# Altium footprint library zyx.PcbLib: 17 footprints (part 3 of 4)
Each footprint in its own frame and in the unit in brackets; x right, y up, seen from the top. Pads: shape width x height; smd on the part's side, far side on the other; paste and mask are expansions set on the pad; w line width, h text height; cw(c..) or ccw(c..) is an arc to the next point about the centre after c.
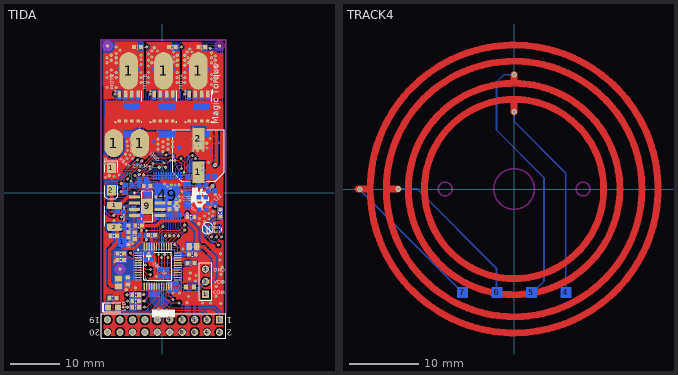
[diagram p2: the footprints below, top view; thin cyan lines are the x and y axes]

## TIDA [mm]
pads (337):
  round 0.635 smd mask+0.683: 1(-11.188,29.992) 1(-8.648,-15.569) 1(11.672,29.992)
  rect 0.254x0.254 smd far side paste-0.127 mask-0.127: 1(-10.553,8.021) 1(-9.029,10.561) 1(-4.457,7.894) 1(-3.822,8.656) 1(-3.314,8.021) 1(-1.79,10.307) 1(1.385,8.021) 1(3.29,9.037) 1(3.798,9.037) 1(5.322,7.005) 1(9.894,8.275) 1(10.91,8.529) 2(-10.553,8.529) 2(-9.029,11.069) 2(-4.457,8.402) 2(-3.822,9.164) 2(-3.314,8.529) 2(-1.79,10.815) 2(1.893,8.021) 2(3.29,9.545) 2(3.798,9.545) 2(5.322,7.513) 2(9.894,8.783) 2(10.91,9.037)
  rect 1.85x2.1 smd: 1(-10.394,5.146) 2(-10.394,0.546)
  oval 3.81x5.715 smd: 1(-9.918,10.148) 1(-4.61,10.148)
  rrect30% 3x1.5 smd: 1(-9.759,-2.559) 2(-9.759,-6.989)
  rect 0.8x0.85 smd: 1(-9.377,-21.443) 1(-9.218,-8.743) 1(-7.789,-13.664) 1(-7.789,-12.394) 1(-4.748,-20.783) 1(-4.748,-23.323) 1(-4.748,-22.054) 1(-4.392,29.738) 1(-4.138,-6.679) 1(-2.392,1.417) 1(-1.471,-8.616) 1(1.447,-3.346) 1(1.447,-2.076) 1(2.72,29.738) 1(5.098,-4.933) 1(5.13,-14.331) 1(5.416,-12.553) 1(8.735,29.738) 2(-10.777,-21.443) 2(-10.618,-8.743) 2(-9.189,-13.664) 2(-9.189,-12.394) 2(-6.148,-20.783) 2(-6.148,-23.323) 2(-6.148,-22.054) 2(-5.792,29.738) 2(-5.538,-6.679) 2(-3.792,1.417) 2(-2.871,-8.616) 2(1.32,29.738) 2(2.847,-3.346) 2(2.847,-2.076) 2(6.498,-4.933) 2(6.53,-14.331) 2(6.816,-12.553) 2(7.335,29.738)
  rect 0.8x0.85 smd far side: 1(-9.348,-3.822) 1(-6.253,1.576) 1(-4.748,-23.323) 1(-4.748,-22.054) 1(-4.748,-20.783) 1(-4.675,2.814) 1(-3.249,-8.616) 1(6.657,3.322) 1(7.416,-0.869) 1(8.816,1.671) 1(8.943,-3.409) 1(9.321,-2.139) 1(9.321,0.401) 1(10.669,3.345) 2(-7.948,-3.822) 2(-6.148,-23.323) 2(-6.148,-22.054) 2(-6.148,-20.783) 2(-4.853,1.576) 2(-4.649,-8.616) 2(-3.275,2.814) 2(5.257,3.322) 2(7.416,1.671) 2(7.543,-3.409) 2(8.816,-0.869) 2(9.269,3.345) 2(10.721,-2.139) 2(10.721,0.401)
  rect 1.2x1.2 smd: 1(-9.027,-23.348) 2(-11.127,-23.348)
  rect 1.4x1.1 smd: 1(-8.966,-17.518) 2(-8.966,-19.018)
  rect 1.8x1.8 smd far side: 1(-8.172,-10.054) 2(-8.172,-6.754)
  rect 0.85x0.8 smd far side: 1(-7.556,0.183) 1(-5.854,-4.49) 1(-4.457,-4.614) 1(-3.409,-12.171) 1(-2.298,-19.156) 1(-2.139,-13.571) 1(-1.028,-20.556) 1(-0.393,-15.663) 1(0.877,-17.063) 1(1.512,-19.921) 1(2.782,-18.521) 2(-7.556,1.583) 2(-5.854,-3.09) 2(-4.457,-6.014) 2(-3.409,-13.571) 2(-2.298,-20.556) 2(-2.139,-12.171) 2(-1.028,-19.156) 2(-0.393,-17.063) 2(0.877,-15.663) 2(1.512,-18.521) 2(2.782,-19.921)
  rect 0.85x0.8 smd: 1(-7.061,-17.251) 1(-6.902,-10.554) 1(-6.902,-6.614) 1(-5.632,-8.043) 1(11.831,-4.839) 2(-7.061,-18.651) 2(-6.902,-9.154) 2(-6.902,-8.014) 2(-5.632,-9.443) 2(11.831,-3.439)
  oval 3.81x7.62 smd: 1(-6.87,24.912) 1(0.242,24.912) 1(7.354,24.912)
  rect 3.3x1.1 smd far side: 1(-6.235,12.029) 1(0.877,12.029) 1(7.989,12.029) 2(-6.235,17.729) 2(0.877,17.729) 2(7.989,17.729)
  rect 2.2x0.6 smd: 1(-5.692,-0.806) 2(-5.692,-2.076) 3(-5.692,-3.346) 4(-5.692,-4.616) 5(-0.492,-4.616) 6(-0.492,-3.346) 7(-0.492,-2.076) 8(-0.492,-0.806)
  rect 0.71x1.372 smd far side paste-0.4: 1(-4.965,19.723) 1(2.147,19.723) 1(9.259,19.723) 2(-6.235,19.723) 2(0.877,19.723) 2(7.989,19.723) 3(-7.505,19.723) 3(-0.393,19.723) 3(6.719,19.723) 4(-8.775,19.723) 4(-1.663,19.723) 4(5.449,19.723)
  rect 0.71x1.372 smd paste-0.4: 1(-4.965,20.195) 1(2.147,20.195) 1(9.259,20.195) 2(-6.235,20.195) 2(0.877,20.195) 2(7.989,20.195) 3(-7.505,20.195) 3(-0.393,20.195) 3(6.719,20.195) 4(-8.775,20.195) 4(-1.663,20.195) 4(5.449,20.195)
  oval 1.55x0.25 smd: 1(-4.952,-12.249) 2(-4.952,-12.749) 3(-4.952,-13.249) 4(-4.952,-13.749) 5(-4.952,-14.249) 6(-4.952,-14.749) 7(-4.952,-15.249) 8(-4.952,-15.749) 9(-4.952,-16.249) 10(-4.952,-16.749) 11(-4.952,-17.249) 12(-4.952,-17.749) 25(3.098,-17.749) 26(3.098,-17.249) 27(3.098,-16.749) 28(3.098,-16.249) 29(3.098,-15.749) 30(3.098,-15.249) 31(3.098,-14.749) 32(3.098,-14.249) 33(3.098,-13.749) 34(3.098,-13.249) 35(3.098,-12.749) 36(3.098,-12.249)
  rrect100% 0.25x1.5 smd far side: 1(3.754,-4.665) 2(3.254,-4.665) 3(2.754,-4.665) 4(2.254,-4.665) 5(1.754,-4.665) 6(1.254,-4.665) 7(0.754,-4.665) 8(0.254,-4.665) 9(-0.246,-4.665) 10(-0.746,-4.665) 11(-1.246,-4.665) 12(-1.746,-4.665) 25(-1.746,3.435) 26(-1.246,3.435) 27(-0.746,3.435) 28(-0.246,3.435) 29(0.254,3.435) 30(0.754,3.435) 31(1.254,3.435) 32(1.754,3.435) 33(2.254,3.435) 34(2.754,3.435) 35(3.254,3.435) 36(3.754,3.435)
  rect 1.1x1.4 smd: 1(5.524,-10.966) 2(7.024,-10.966)
  rect 0.813x1.016 smd: 1(6.497,-19.221) 2(4.782,-19.221)
  rect 2.5x4.4 smd: 1(7.354,4.19) 2(7.354,11.09)
  rect 1.5x1.5 hole 0.9: 1(8.814,-20.649) 1(11.672,-25.888)
  rrect50% 0.2x0.55 smd: 1(9.656,-7.898) 2(10.156,-7.898) 4(11.156,-7.898) 5(11.656,-7.898) 6(11.656,-7.048) 7(11.156,-7.048) 9(10.156,-7.048) 10(9.656,-7.048)
  round 1.5 hole 0.9: 2(8.814,-18.109) 2(11.672,-28.428) 3(8.814,-15.569) 3(9.132,-25.888) 4(9.132,-28.428) 5(6.592,-25.888) 6(6.592,-28.428) 7(4.052,-25.888) 8(4.052,-28.428) 9(1.512,-25.888) 10(1.512,-28.428) 11(-1.028,-25.888) 12(-1.028,-28.428) 13(-3.568,-25.888) 14(-3.568,-28.428) 15(-6.108,-25.888) 16(-6.108,-28.428) 17(-8.648,-25.888) 18(-8.648,-28.428) 19(-11.188,-25.888) 20(-11.188,-28.428)
  rrect25% 0.4x0.55 smd: 3(10.656,-7.898) 8(10.656,-7.048)
  rect 0.71x0.59 smd paste-0.3: 5(-8.775,14.643) 5(-1.663,14.643) 5(5.449,14.643) 6(-7.505,14.643) 6(-0.393,14.643) 6(6.719,14.643) 7(-6.235,14.643) 7(0.877,14.643) 7(7.989,14.643) 8(-4.965,14.643) 8(2.147,14.643) 8(9.259,14.643)
  rect 0.71x0.59 smd far side paste-0.3: 5(-8.775,25.275) 5(-1.663,25.275) 5(5.449,25.275) 6(-7.505,25.275) 6(-0.393,25.275) 6(6.719,25.275) 7(-6.235,25.275) 7(0.877,25.275) 7(7.989,25.275) 8(-4.965,25.275) 8(2.147,25.275) 8(9.259,25.275)
  rect 2.4x3.1 smd mask+0.102: 9(-3.092,-2.711)
  oval 0.25x1.55 smd: 13(-3.677,-19.024) 14(-3.177,-19.024) 15(-2.677,-19.024) 16(-2.177,-19.024) 17(-1.677,-19.024) 18(-1.177,-19.024) 19(-0.677,-19.024) 20(-0.177,-19.024) 21(0.323,-19.024) 22(0.823,-19.024) 23(1.323,-19.024) 24(1.823,-19.024) 37(1.823,-10.974) 38(1.323,-10.974) 39(0.823,-10.974) 40(0.323,-10.974) 41(-0.177,-10.974) 42(-0.677,-10.974) 43(-1.177,-10.974) 44(-1.677,-10.974) 45(-2.177,-10.974) 46(-2.677,-10.974) 47(-3.177,-10.974) 48(-3.677,-10.974)
  rrect100% 1.5x0.25 smd far side: 13(-3.046,-3.365) 14(-3.046,-2.865) 15(-3.046,-2.365) 16(-3.046,-1.865) 17(-3.046,-1.365) 18(-3.046,-0.865) 19(-3.046,-0.365) 20(-3.046,0.135) 21(-3.046,0.635) 22(-3.046,1.135) 23(-3.046,1.635) 24(-3.046,2.135) 37(5.054,2.135) 38(5.054,1.635) 39(5.054,1.135) 40(5.054,0.635) 41(5.054,0.135) 42(5.054,-0.365) 43(5.054,-0.865) 44(5.054,-1.365) 45(5.054,-1.865) 46(5.054,-2.365) 47(5.054,-2.865) 48(5.054,-3.365)
  rrect2% 5.17x5.17 smd far side: 49(1.004,-0.615)
via -4.235,-7.651 diameter 0.635 hole 0.381
via 2.198,-21.773 diameter 0.635 hole 0.381
via 3.417,-22.434 diameter 0.635 hole 0.381
via -6.515,-12.274 diameter 0.635 hole 0.381
via -3.67,-23.297 diameter 0.635 hole 0.381
via -3.695,-22.078 diameter 0.635 hole 0.381
via -3.797,-20.757 diameter 0.635 hole 0.381
via -7.099,-23.323 diameter 0.635 hole 0.381
via -7.124,-22.078 diameter 0.635 hole 0.381
via -7.251,-20.783 diameter 0.635 hole 0.381
via 4.179,-11.41 diameter 0.635 hole 0.381
via -11.315,26.563 diameter 0.635 hole 0.381
via -9.41,26.563 diameter 0.635 hole 0.381
via -11.315,23.515 diameter 0.635 hole 0.381
via -9.42,23.515 diameter 0.635 hole 0.381
via -10.426,28.087 diameter 0.635 hole 0.381
via -10.426,23.896 diameter 0.635 hole 0.381
via -4.33,24.531 diameter 0.635 hole 0.381
via -4.32,22.499 diameter 0.635 hole 0.381
via -4.32,23.515 diameter 0.635 hole 0.381
via -4.33,26.182 diameter 0.635 hole 0.381
via -4.33,27.198 diameter 0.635 hole 0.381
via -9.42,24.531 diameter 0.635 hole 0.381
via -9.42,21.483 diameter 0.635 hole 0.381
via -9.41,27.579 diameter 0.635 hole 0.381
via -11.315,21.483 diameter 0.635 hole 0.381
via -11.315,24.531 diameter 0.635 hole 0.381
via 3.036,22.499 diameter 0.635 hole 0.381
via 5.195,26.563 diameter 0.635 hole 0.381
via 6.084,28.722 diameter 0.635 hole 0.381
via 5.576,29.357 diameter 0.635 hole 0.381
via 2.104,9.418 diameter 0.635 hole 0.381
via 2.104,10.434 diameter 0.635 hole 0.381
via -7.219,10.466 diameter 0.635 hole 0.381
via -7.124,9.545 diameter 0.635 hole 0.381
via -7.124,8.656 diameter 0.635 hole 0.381
via -6.108,7.005 diameter 0.635 hole 0.381
via -6.616,7.767 diameter 0.635 hole 0.381
via -7.251,7.005 diameter 0.635 hole 0.381
via -7.124,2.814 diameter 0.635 hole 0.381
via -4.203,6.497 diameter 0.635 hole 0.381
via -4.711,3.779 diameter 0.635 hole 0.381
via -3.822,3.703 diameter 0.635 hole 0.381
via -2.552,4.846 diameter 0.635 hole 0.381
via -1.917,5.989 diameter 0.635 hole 0.381
via -0.647,5.227 diameter 0.635 hole 0.381
via 0.75,7.767 diameter 0.635 hole 0.381
via 0.623,5.227 diameter 0.635 hole 0.381
via 0.369,6.116 diameter 0.635 hole 0.381
via -7.505,7.894 diameter 0.635 hole 0.381
via 0.115,9.418 diameter 0.635 hole 0.381
via 1.131,8.91 diameter 0.635 hole 0.381
via 0.115,8.402 diameter 0.635 hole 0.381
via -0.901,9.926 diameter 0.635 hole 0.381
via 1.131,10.942 diameter 0.635 hole 0.381
via -0.901,8.91 diameter 0.635 hole 0.381
via 0.115,10.434 diameter 0.635 hole 0.381
via -5.6,3.576 diameter 0.635 hole 0.381
via -6.362,2.433 diameter 0.635 hole 0.381
via 10.021,28.595 diameter 0.635 hole 0.381
via 10.021,26.563 diameter 0.635 hole 0.381
via 5.068,28.722 diameter 0.635 hole 0.381
via 10.021,23.261 diameter 0.635 hole 0.381
via 4.56,23.515 diameter 0.635 hole 0.381
via 10.783,27.96 diameter 0.635 hole 0.381
via 10.021,27.579 diameter 0.635 hole 0.381
via 10.021,22.118 diameter 0.635 hole 0.381
via 10.783,22.753 diameter 0.635 hole 0.381
via 10.021,24.15 diameter 0.635 hole 0.381
via -2.171,26.563 diameter 0.635 hole 0.381
via -2.171,27.706 diameter 0.635 hole 0.381
via -2.806,22.499 diameter 0.635 hole 0.381
via -2.171,28.976 diameter 0.635 hole 0.381
via -1.028,28.976 diameter 0.635 hole 0.381
via -1.663,29.611 diameter 0.635 hole 0.381
via -8.648,29.103 diameter 0.635 hole 0.381
via -9.41,29.738 diameter 0.635 hole 0.381
via -11.315,27.579 diameter 0.635 hole 0.381
via 4.56,22.499 diameter 0.635 hole 0.381
via 9.767,29.484 diameter 0.635 hole 0.381
via -2.806,24.531 diameter 0.635 hole 0.381
via 11.418,-10.648 diameter 0.635 hole 0.381
via 11.037,-8.997 diameter 0.635 hole 0.381
via 12.078,-8.972 diameter 0.635 hole 0.381
via 10.021,-8.997 diameter 0.635 hole 0.381
via 3.798,7.005 diameter 0.635 hole 0.381
via 4.56,20.195 diameter 0.635 hole 0.381
via 2.528,6.624 diameter 0.635 hole 0.381
via -4.711,4.592 diameter 0.635 hole 0.381
via -5.092,6.751 diameter 0.635 hole 0.381
via 10.783,27.071 diameter 0.635 hole 0.381
via -9.664,20.195 diameter 0.635 hole 0.381
via -2.552,20.195 diameter 0.635 hole 0.381
via -3.187,29.738 diameter 0.635 hole 0.381
via 3.912,29.738 diameter 0.635 hole 0.381
via -0.139,-13.18 diameter 0.635 hole 0.381
via 1.131,-13.18 diameter 0.635 hole 0.381
via 0.115,-6.83 diameter 0.635 hole 0.381
via 1.512,-8.743 diameter 0.635 hole 0.381
via 0.623,-8.735 diameter 0.635 hole 0.381
via 3.29,-8.743 diameter 0.635 hole 0.381
via 2.401,-8.743 diameter 0.635 hole 0.381
via 2.528,-10.513 diameter 0.635 hole 0.381
via 5.068,-4.171 diameter 0.635 hole 0.381
via 0.496,-12.545 diameter 0.635 hole 0.381
via 1.766,-12.545 diameter 0.635 hole 0.381
via -0.774,-12.545 diameter 0.635 hole 0.381
via 2.147,7.386 diameter 0.635 hole 0.381
via 4.433,4.211 diameter 0.635 hole 0.381
via 3.925,4.973 diameter 0.635 hole 0.381
via -3.249,-7.665 diameter 0.635 hole 0.381
via -2.425,-15.601 diameter 0.635 hole 0.381
via -2.425,-16.617 diameter 0.635 hole 0.381
via -3.441,-17.633 diameter 0.635 hole 0.381
via -3.441,-14.712 diameter 0.635 hole 0.381
via -8.47,0.274 diameter 0.635 hole 0.381
via -8.394,1.925 diameter 0.635 hole 0.381
via 10.656,-6.203 diameter 0.635 hole 0.381
via -0.901,10.942 diameter 0.635 hole 0.381
via 1.131,9.926 diameter 0.635 hole 0.381
via 10.783,-0.361 diameter 0.635 hole 0.381
via -3.249,-9.567 diameter 0.635 hole 0.381
via 10.783,26.182 diameter 0.635 hole 0.381
via 5.195,27.579 diameter 0.635 hole 0.381
via 4.56,28.087 diameter 0.635 hole 0.381
via 4.56,27.071 diameter 0.635 hole 0.381
via 3.036,28.087 diameter 0.635 hole 0.381
via 2.274,28.722 diameter 0.635 hole 0.381
via 3.036,27.071 diameter 0.635 hole 0.381
via -2.806,28.341 diameter 0.635 hole 0.381
via -2.806,27.071 diameter 0.635 hole 0.381
via -4.33,28.087 diameter 0.635 hole 0.381
via -9.41,28.468 diameter 0.635 hole 0.381
via -10.426,27.071 diameter 0.635 hole 0.381
via -2.806,25.928 diameter 0.635 hole 0.381
via -2.806,23.515 diameter 0.635 hole 0.381
via 3.036,23.515 diameter 0.635 hole 0.381
via 3.036,24.531 diameter 0.635 hole 0.381
via 3.036,26.055 diameter 0.635 hole 0.381
via -10.426,25.039 diameter 0.635 hole 0.381
via 4.56,26.055 diameter 0.635 hole 0.381
via 4.56,24.531 diameter 0.635 hole 0.381
via 10.783,23.642 diameter 0.635 hole 0.381
via 10.783,24.531 diameter 0.635 hole 0.381
via 4.56,-7.6 diameter 0.635 hole 0.381
via 4.56,-6.584 diameter 0.635 hole 0.381
via 1.639,6.624 diameter 0.635 hole 0.381
via 2.401,26.69 diameter 0.635 hole 0.381
via 2.401,27.706 diameter 0.635 hole 0.381
via -8.331,-4.933 diameter 0.635 hole 0.381
via -9.918,-4.616 diameter 0.635 hole 0.381
via 10.249,-4.705 diameter 0.635 hole 0.381
via 8.624,-5.822 diameter 0.635 hole 0.381
via 9.513,-5.314 diameter 0.635 hole 0.381
via 10.351,-3.79 diameter 0.635 hole 0.381
via 9.513,-4.222 diameter 0.635 hole 0.381
via 8.624,-4.679 diameter 0.635 hole 0.381
via 7.608,-5.238 diameter 0.635 hole 0.381
via 7.43,-6.305 diameter 0.635 hole 0.381
via 5.677,-16.363 diameter 0.635 hole 0.381
via 5.55,-17.506 diameter 0.635 hole 0.381
via 6.871,-16.82 diameter 0.635 hole 0.381
via 6.744,-17.938 diameter 0.635 hole 0.381
via 11.824,-12.426 diameter 0.635 hole 0.381
via 11.773,-13.696 diameter 0.635 hole 0.381
via 12.205,-15.093 diameter 0.635 hole 0.381
via 11.926,-16.592 diameter 0.635 hole 0.381
via 12.281,-18.141 diameter 0.635 hole 0.381
via 10.986,-19.081 diameter 0.635 hole 0.381
via 12.205,-20.402 diameter 0.635 hole 0.381
via 10.935,-21.088 diameter 0.635 hole 0.381
via 11.9,-22.535 diameter 0.635 hole 0.381
via 9.818,-22.485 diameter 0.635 hole 0.381
via 8.217,-22.459 diameter 0.635 hole 0.381
via 5.322,-21.113 diameter 0.635 hole 0.381
via 5.042,-22.408 diameter 0.635 hole 0.381
via -0.774,-23.805 diameter 0.635 hole 0.381
via -7.378,-19.767 diameter 0.635 hole 0.381
via -5.448,-19.36 diameter 0.635 hole 0.381
via -9.893,-5.594 diameter 0.635 hole 0.381
via -8.826,3.677 diameter 0.635 hole 0.381
via -9.893,3.322 diameter 0.635 hole 0.381
via -10.833,3.5 diameter 0.635 hole 0.381
via -11.595,3.144 diameter 0.635 hole 0.381
via -11.62,6.903 diameter 0.635 hole 0.381
via -11.671,5.963 diameter 0.635 hole 0.381
via 0.445,1.823 diameter 0.635 hole 0.381
via 1.029,1.315 diameter 0.635 hole 0.381
via 1.639,0.833 diameter 0.635 hole 0.381
via 1.817,1.62 diameter 0.635 hole 0.381
via 2.604,1.645 diameter 0.635 hole 0.381
via 3.391,1.671 diameter 0.635 hole 0.381
via 3.391,-0.768 diameter 0.635 hole 0.381
via 2.807,-1.25 diameter 0.635 hole 0.381
via -9.664,-14.026 diameter 0.635 hole 0.381
via -6.083,-10.343 diameter 0.635 hole 0.381
via 6.287,8.63 diameter 0.635 hole 0.381
via 7.201,8.605 diameter 0.635 hole 0.381
via 8.294,8.63 diameter 0.635 hole 0.381
via 9.106,9.164 diameter 0.635 hole 0.381
via 9.056,10.129 diameter 0.635 hole 0.381
via 8.344,9.646 diameter 0.635 hole 0.381
via 7.379,9.57 diameter 0.635 hole 0.381
via 6.338,9.646 diameter 0.635 hole 0.381
via 6.973,10.383 diameter 0.635 hole 0.381
via 7.989,10.459 diameter 0.635 hole 0.381
via 6.262,11.018 diameter 0.635 hole 0.381
via 7.354,11.09 diameter 0.635 hole 0.381
via 9.716,11.069 diameter 0.635 hole 0.381
via 2.198,-20.427 diameter 0.635 hole 0.381
via 3.493,-20.402 diameter 0.635 hole 0.381
via -1.181,-17.074 diameter 0.635 hole 0.381
via -2.781,-12.477 diameter 0.635 hole 0.381
via -5.702,7.767 diameter 0.635 hole 0.381
via -6.337,8.605 diameter 0.635 hole 0.381
via -6.464,10.866 diameter 0.635 hole 0.381
via -6.286,9.748 diameter 0.635 hole 0.381
via 2.528,-2.723 diameter 0.635 hole 0.381
via 3.366,-2.723 diameter 0.635 hole 0.381
via 3.544,-1.606 diameter 0.635 hole 0.381
via 10.707,-2.8 diameter 0.635 hole 0.381
via 10.726,5.703 diameter 0.813 hole 0.5
via 8.179,4.592 diameter 0.813 hole 0.5
via 8.179,5.544 diameter 0.813 hole 0.5
via 10.186,1.442 diameter 0.813 hole 0.5
via 6.116,7.653 diameter 0.635 hole 0.381
via 6.751,6.992 diameter 0.635 hole 0.381
via 9.449,6.179 diameter 0.635 hole 0.381
Top Layer:
  drawing of 318 lines, arcs and shapes, not listed
Top Layer keep-out:
  circle w1.178: c-8.648,-15.569 r0.5
  circle w1.178: c11.672,29.992 r0.5
  circle w1.178: c-11.188,29.992 r0.5
Bottom Layer:
  drawing of 447 lines, arcs and shapes, not listed
Top Overlay:
  drawing of 126 lines, arcs and shapes, not listed
  text "Magic Torque" at 11.989,13.958 h2.29
  text "27V Max" at -6.029,5.148 h0.76
  text "F28027F" at -2.457,-14.061 h0.76
  text "20151122" at 8.735,-4.139 h0.76
  text "by" at 8.973,0.544 h0.76
  text "Powered" at 0.718,-0.091 h0.76
  text "function" at 3.734,-1.044 h0.76
  text "GND" at 10.481,-16.046 h0.74
  text "COM" at 10.402,-20.649 h0.76
  text "VDD" at 10.481,-18.506 h0.76
  text "GND" at -2.616,7.846 h0.76
  text "VBAT" at -8.886,6.814 h0.76
  text "MOTA" at 4.179,21.102 h0.76
  text "MOTB" at -3.187,21.102 h0.76
  text "MOTC" at -9.918,21.102 h0.76
  text "LED" at -7.458,-24.301 h0.76
  text "2" at 14.212,-27.92 h1.27
  text "1" at 14.212,-25.38 h1.27
  text "19" at -12.712,-25.38 h1.27
  text "20" at -12.712,-27.92 h1.27
Bottom Overlay:
  rectangle: -1.272,5.989 11.011,8.539
  rectangle: -12.458,7.608 12.942,14.434
  rectangle: 10.925,-10.727 12.942,-5.578
  region: -7.029,-5.155 -7.029,-4.774 -9.315,-4.774 -9.315,-5.155
  region: 49 vertices and 33 holes, not listed, extent -12.596,-29.811 13.08,31.4
  lines w0.1: -9.315,-9.092 -9.315,-11.251 -7.029,-11.251 -7.029,-9.092 ; -9.315,-7.695 -9.315,-5.536 -7.029,-5.536 -7.029,-7.695
  lines w0.2: -9.57,19.314 -9.57,19.114 -9.39,19.114 ; -9.57,25.299 -9.57,25.499 -9.39,25.499 ; -8.719,-4.147 -8.577,-4.147 ; -8.719,-3.497 -8.577,-3.497 ; -7.881,0.812 -7.881,0.955 ; -7.785,12.979 -7.785,16.779 ; -7.231,0.812 -7.231,0.955 ; -6.179,-3.861 -6.179,-3.719 ; -5.624,1.251 -5.481,1.251 ; -5.624,1.901 -5.481,1.901 ; -5.529,-3.861 -5.529,-3.719 ; -5.519,-23.648 -5.377,-23.648 ; -5.519,-22.998 -5.377,-22.998 ; -5.519,-22.379 -5.377,-22.379 ; -5.519,-21.729 -5.377,-21.729 ; -5.519,-21.108 -5.377,-21.108 ; -5.519,-20.458 -5.377,-20.458 ; -4.782,-5.385 -4.782,-5.243 ; -4.685,12.979 -4.685,16.779 ; -4.35,19.114 -4.17,19.114 -4.17,21.219 ; -4.35,25.499 -4.17,25.499 -4.17,25.299 ; -4.132,-5.385 -4.132,-5.243 ; -4.046,2.489 -3.903,2.489 ; -4.046,3.139 -3.903,3.139 ; -4.02,-8.941 -3.878,-8.941 ; -4.02,-8.291 -3.878,-8.291 ; -3.734,-12.942 -3.734,-12.8 ; -3.084,-12.942 -3.084,-12.8 ; -2.623,-19.927 -2.623,-19.785 ; -2.596,-3.99 -2.596,-4.215 -2.371,-4.215 ; -2.596,2.76 -2.596,2.985 -2.371,2.985 ; -2.464,-12.942 -2.464,-12.8 ; -2.458,19.314 -2.458,19.114 -2.278,19.114 ; -2.458,25.299 -2.458,25.499 -2.278,25.499 ; -1.973,-19.927 -1.973,-19.785 ; -1.814,-12.942 -1.814,-12.8 ; -1.353,-19.927 -1.353,-19.785 ; -0.718,-16.434 -0.718,-16.292 ; -0.703,-19.927 -0.703,-19.785 ; -0.673,12.979 -0.673,16.779 ; -0.068,-16.434 -0.068,-16.292 ; 0.552,-16.434 0.552,-16.292 ; 1.187,-19.292 1.187,-19.15 ; 1.202,-16.434 1.202,-16.292 ; 1.837,-19.292 1.837,-19.15 ; 2.427,12.979 2.427,16.779 ; 2.457,-19.292 2.457,-19.15 ; 2.762,19.114 2.942,19.114 2.942,21.219 ; 2.762,25.499 2.942,25.499 2.942,25.299 ; 3.107,-19.292 3.107,-19.15 ; 4.129,-4.215 4.604,-4.215 4.604,-3.74 ; 4.379,2.985 4.604,2.985 4.604,2.76 ; 4.654,19.314 4.654,19.114 4.834,19.114 ; 4.654,25.299 4.654,25.499 4.834,25.499 ; 5.886,2.997 6.028,2.997 ; 5.886,3.647 6.028,3.647 ; 6.439,12.979 6.439,16.779 ; 8.045,-1.194 8.187,-1.194 ; 8.045,-0.544 8.187,-0.544 ; 8.045,1.346 8.187,1.346 ; 8.045,1.996 8.187,1.996 ; 8.172,-3.734 8.314,-3.734 ; 8.172,-3.084 8.314,-3.084 ; 9.539,12.979 9.539,16.779 ; 9.874,19.114 10.054,19.114 10.054,21.219 ; 9.874,25.499 10.054,25.499 10.054,25.299 ; 9.898,3.02 10.04,3.02 ; 9.898,3.67 10.04,3.67 ; 9.95,-2.464 10.092,-2.464 ; 9.95,-1.814 10.092,-1.814 ; 9.95,0.076 10.092,0.076 ; 9.95,0.726 10.092,0.726
  text ".PCB_Rev" at 10.529,-11.283 h0.76
  text ".PRJ_Number" at 10.529,-12.426 h0.76
  text "not FCC approved for resale." at 10.529,-10.14 h0.76
  text "For evaluation only;" at 10.564,-9.261 h0.76
  text "Pb" at 8.507,-7.699 h1.52
Top Paste:
  region: -6.72,16.696 -6.72,15.402 -5.974,15.402 -5.974,16.696
  region: -5.974,17.046 -5.974,18.34 -6.72,18.34 -6.72,17.046
  region: -7.02,17.046 -7.02,18.34 -7.766,18.34 -7.766,17.046
  region: -7.766,16.696 -7.766,15.402 -7.02,15.402 -7.02,16.696
  region: -4.928,17.046 -4.928,18.34 -5.674,18.34 -5.674,17.046
  region: -5.674,16.696 -5.674,15.402 -4.928,15.402 -4.928,16.696
  region: -8.066,17.046 -8.066,18.34 -8.812,18.34 -8.812,17.046
  region: -8.812,16.696 -8.812,15.402 -8.066,15.402 -8.066,16.696
  region: -5.246,20.731 -5.246,19.659 -4.684,19.659 -4.684,20.731
  region: -6.516,20.731 -6.516,19.659 -5.954,19.659 -5.954,20.731
  region: -7.786,20.731 -7.786,19.659 -7.224,19.659 -7.224,20.731
  region: -9.056,20.731 -9.056,19.659 -8.494,19.659 -8.494,20.731
  region: -5.219,15.116 -5.219,14.35 -4.711,14.35 -4.711,15.116
  region: -6.489,15.116 -6.489,14.35 -5.981,14.35 -5.981,15.116
  region: -7.759,15.116 -7.759,14.35 -7.251,14.35 -7.251,15.116
  region: -9.029,15.116 -9.029,14.35 -8.521,14.35 -8.521,15.116
  region: 0.392,16.696 0.392,15.402 1.138,15.402 1.138,16.696
  region: 1.138,17.046 1.138,18.34 0.392,18.34 0.392,17.046
  region: 0.092,17.046 0.092,18.34 -0.654,18.34 -0.654,17.046
  region: -0.654,16.696 -0.654,15.402 0.092,15.402 0.092,16.696
  region: 2.184,17.046 2.184,18.34 1.438,18.34 1.438,17.046
  region: 1.438,16.696 1.438,15.402 2.184,15.402 2.184,16.696
  region: -0.954,17.046 -0.954,18.34 -1.7,18.34 -1.7,17.046
  region: -1.7,16.696 -1.7,15.402 -0.954,15.402 -0.954,16.696
  region: 1.866,20.731 1.866,19.659 2.428,19.659 2.428,20.731
  region: 0.596,20.731 0.596,19.659 1.158,19.659 1.158,20.731
  region: -0.674,20.731 -0.674,19.659 -0.112,19.659 -0.112,20.731
  region: -1.944,20.731 -1.944,19.659 -1.382,19.659 -1.382,20.731
  region: 1.893,15.116 1.893,14.35 2.401,14.35 2.401,15.116
  region: 0.623,15.116 0.623,14.35 1.131,14.35 1.131,15.116
  region: -0.647,15.116 -0.647,14.35 -0.139,14.35 -0.139,15.116
  region: -1.917,15.116 -1.917,14.35 -1.409,14.35 -1.409,15.116
  region: 7.504,16.696 7.504,15.402 8.25,15.402 8.25,16.696
  region: 8.25,17.046 8.25,18.34 7.504,18.34 7.504,17.046
  region: 7.204,17.046 7.204,18.34 6.458,18.34 6.458,17.046
  region: 6.458,16.696 6.458,15.402 7.204,15.402 7.204,16.696
  region: 9.296,17.046 9.296,18.34 8.55,18.34 8.55,17.046
  region: 8.55,16.696 8.55,15.402 9.296,15.402 9.296,16.696
  region: 6.158,17.046 6.158,18.34 5.412,18.34 5.412,17.046
  region: 5.412,16.696 5.412,15.402 6.158,15.402 6.158,16.696
  region: 8.978,20.731 8.978,19.659 9.54,19.659 9.54,20.731
  region: 7.708,20.731 7.708,19.659 8.27,19.659 8.27,20.731
  region: 6.438,20.731 6.438,19.659 7,19.659 7,20.731
  region: 5.168,20.731 5.168,19.659 5.73,19.659 5.73,20.731
  region: 9.005,15.116 9.005,14.35 9.513,14.35 9.513,15.116
  region: 7.735,15.116 7.735,14.35 8.243,14.35 8.243,15.116
  region: 6.465,15.116 6.465,14.35 6.973,14.35 6.973,15.116
  region: 5.195,15.116 5.195,14.35 5.703,14.35 5.703,15.116
  region: 6.243,-18.713 5.989,-18.713 5.481,-19.221 5.989,-19.729 6.243,-19.729
  region: 4.973,-19.221 5.227,-19.221 5.735,-18.713 4.973,-18.713
  region: 4.973,-19.221 5.227,-19.221 5.735,-19.729 4.973,-19.729
Bottom Paste:
  region: -5.974,23.222 -5.974,24.516 -6.72,24.516 -6.72,23.222
  region: -6.72,22.872 -6.72,21.578 -5.974,21.578 -5.974,22.872
  region: -7.766,22.872 -7.766,21.578 -7.02,21.578 -7.02,22.872
  region: -7.02,23.222 -7.02,24.516 -7.766,24.516 -7.766,23.222
  region: -5.674,22.872 -5.674,21.578 -4.928,21.578 -4.928,22.872
  region: -4.928,23.222 -4.928,24.516 -5.674,24.516 -5.674,23.222
  region: -8.812,22.872 -8.812,21.578 -8.066,21.578 -8.066,22.872
  region: -8.066,23.222 -8.066,24.516 -8.812,24.516 -8.812,23.222
  region: -4.684,19.187 -4.684,20.259 -5.246,20.259 -5.246,19.187
  region: -5.954,19.187 -5.954,20.259 -6.516,20.259 -6.516,19.187
  region: -7.224,19.187 -7.224,20.259 -7.786,20.259 -7.786,19.187
  region: -8.494,19.187 -8.494,20.259 -9.056,20.259 -9.056,19.187
  region: -4.711,24.802 -4.711,25.568 -5.219,25.568 -5.219,24.802
  region: -5.981,24.802 -5.981,25.568 -6.489,25.568 -6.489,24.802
  region: -7.251,24.802 -7.251,25.568 -7.759,25.568 -7.759,24.802
  region: -8.521,24.802 -8.521,25.568 -9.029,25.568 -9.029,24.802
  region: 1.138,23.222 1.138,24.516 0.392,24.516 0.392,23.222
  region: 0.392,22.872 0.392,21.578 1.138,21.578 1.138,22.872
  region: -0.654,22.872 -0.654,21.578 0.092,21.578 0.092,22.872
  region: 0.092,23.222 0.092,24.516 -0.654,24.516 -0.654,23.222
  region: 1.438,22.872 1.438,21.578 2.184,21.578 2.184,22.872
  region: 2.184,23.222 2.184,24.516 1.438,24.516 1.438,23.222
  region: -1.7,22.872 -1.7,21.578 -0.954,21.578 -0.954,22.872
  region: -0.954,23.222 -0.954,24.516 -1.7,24.516 -1.7,23.222
  region: 2.428,19.187 2.428,20.259 1.866,20.259 1.866,19.187
  region: 1.158,19.187 1.158,20.259 0.596,20.259 0.596,19.187
  region: -0.112,19.187 -0.112,20.259 -0.674,20.259 -0.674,19.187
  region: -1.382,19.187 -1.382,20.259 -1.944,20.259 -1.944,19.187
  region: 2.401,24.802 2.401,25.568 1.893,25.568 1.893,24.802
  region: 1.131,24.802 1.131,25.568 0.623,25.568 0.623,24.802
  region: -0.139,24.802 -0.139,25.568 -0.647,25.568 -0.647,24.802
  region: -1.409,24.802 -1.409,25.568 -1.917,25.568 -1.917,24.802
  region: 8.25,23.222 8.25,24.516 7.504,24.516 7.504,23.222
  region: 7.504,22.872 7.504,21.578 8.25,21.578 8.25,22.872
  region: 6.458,22.872 6.458,21.578 7.204,21.578 7.204,22.872
  region: 7.204,23.222 7.204,24.516 6.458,24.516 6.458,23.222
  region: 8.55,22.872 8.55,21.578 9.296,21.578 9.296,22.872
  region: 9.296,23.222 9.296,24.516 8.55,24.516 8.55,23.222
  region: 5.412,22.872 5.412,21.578 6.158,21.578 6.158,22.872
  region: 6.158,23.222 6.158,24.516 5.412,24.516 5.412,23.222
  region: 9.54,19.187 9.54,20.259 8.978,20.259 8.978,19.187
  region: 8.27,19.187 8.27,20.259 7.708,20.259 7.708,19.187
  region: 7,19.187 7,20.259 6.438,20.259 6.438,19.187
  region: 5.73,19.187 5.73,20.259 5.168,20.259 5.168,19.187
  region: 9.513,24.802 9.513,25.568 9.005,25.568 9.005,24.802
  region: 8.243,24.802 8.243,25.568 7.735,25.568 7.735,24.802
  region: 6.973,24.802 6.973,25.568 6.465,25.568 6.465,24.802
  region: 5.703,24.802 5.703,25.568 5.195,25.568 5.195,24.802
Top Solder:
  region: 6.243,-18.611 5.989,-18.611 5.379,-19.221 5.989,-19.83 6.243,-19.83
  region: 4.973,-19.221 5.328,-19.221 5.938,-18.611 4.973,-18.611
  region: 4.973,-19.221 5.328,-19.221 5.938,-19.83 4.973,-19.83
Keep-Out Layer:
  lines w0.254: -12.458,-29.673 12.942,-29.673 12.942,-24.618 12.942,31.262 -12.458,31.262 -12.458,-24.618 -12.458,-29.673
Mechanical 1:
  lines w0.1: -10.594,2.846 -10.194,2.846 ; -10.394,2.646 -10.394,3.046
  lines w0.254: -12.458,-24.618 -12.458,31.262 12.942,31.262 12.942,-24.618 12.942,-29.673 -12.458,-29.673 -12.458,-24.618 ; -12.458,-24.618 -12.458,-24.618
Mechanical 5:
  circle w0.127: c-5.095,19.824 r0.32
  circle w0.127: c2.017,19.824 r0.32
  circle w0.127: c9.129,19.824 r0.32
  circle w0.1: c-3.527,-12.399 r0.3
  circle w0.1: c9.756,-7.673 r0.2
  region: -11.877,-22.348 -12.277,-22.348 -12.277,-24.348 -11.877,-24.348
  lines w0.1: -11.277,-21.968 -8.877,-21.968 -8.877,-20.918 -11.277,-20.918 -11.277,-21.968 ; -11.118,-9.268 -8.718,-9.268 -8.718,-8.218 -11.118,-8.218 -11.118,-9.268 ; -9.766,-19.693 -8.166,-19.693 -8.166,-16.843 -9.766,-16.843 -9.766,-19.693 ; -9.689,-14.189 -7.289,-14.189 -7.289,-13.139 -9.689,-13.139 -9.689,-14.189 ; -9.689,-12.919 -9.689,-11.869 -7.289,-11.869 -7.289,-12.919 -9.689,-12.919 ; -7.586,-19.151 -6.536,-19.151 -6.536,-16.751 -7.586,-16.751 -7.586,-19.151 ; -7.427,-11.054 -7.427,-8.654 -6.377,-8.654 -6.377,-11.054 -7.427,-11.054 ; -7.427,-8.514 -6.377,-8.514 -6.377,-6.114 -7.427,-6.114 -7.427,-8.514 ; -6.648,-23.848 -4.248,-23.848 -4.248,-22.798 -6.648,-22.798 -6.648,-23.848 ; -6.648,-22.579 -4.248,-22.579 -4.248,-21.529 -6.648,-21.529 -6.648,-22.579 ; -6.648,-21.308 -4.248,-21.308 -4.248,-20.258 -6.648,-20.258 -6.648,-21.308 ; -6.292,29.213 -3.892,29.213 -3.892,30.263 -6.292,30.263 -6.292,29.213 ; -6.157,-9.943 -5.107,-9.943 -5.107,-7.543 -6.157,-7.543 -6.157,-9.943 ; -6.038,-7.204 -6.038,-6.154 -3.638,-6.154 -3.638,-7.204 -6.038,-7.204 ; -4.427,-18.499 -4.427,-11.499 2.573,-11.499 2.573,-18.499 -4.427,-18.499 ; -4.292,0.892 -1.892,0.892 -1.892,1.942 -4.292,1.942 -4.292,0.892 ; -3.371,-9.141 -3.371,-8.091 -0.971,-8.091 -0.971,-9.141 -3.371,-9.141 ; 0.82,29.213 3.22,29.213 3.22,30.263 0.82,30.263 0.82,29.213 ; 0.947,-3.871 0.947,-2.821 3.347,-2.821 3.347,-3.871 0.947,-3.871 ; 0.947,-2.601 3.347,-2.601 3.347,-1.551 0.947,-1.551 0.947,-2.601 ; 4.598,-5.458 6.998,-5.458 6.998,-4.408 4.598,-4.408 4.598,-5.458 ; 4.63,-14.856 4.63,-13.806 7.03,-13.806 7.03,-14.856 4.63,-14.856 ; 4.849,-11.766 4.849,-10.166 7.699,-10.166 7.699,-11.766 4.849,-11.766 ; 4.916,-13.078 4.916,-12.028 7.316,-12.028 7.316,-13.078 4.916,-13.078 ; 6.835,29.213 9.235,29.213 9.235,30.263 6.835,30.263 6.835,29.213 ; 9.356,-8.023 9.356,-6.923 11.956,-6.923 11.956,-8.023 9.356,-8.023 ; 11.306,-5.339 12.356,-5.339 12.356,-2.939 11.306,-2.939 11.306,-5.339
  lines w0.127: -9.42,14.544 -4.32,14.544 -4.32,20.649 -9.42,20.649 -9.42,14.544 ; -2.308,14.544 2.792,14.544 2.792,20.649 -2.308,20.649 -2.308,14.544 ; 2.104,4.24 2.104,7.64 2.104,12.89 12.604,12.89 12.604,7.64 12.604,4.24 10.754,2.39 3.954,2.39 2.104,4.24 ; 4.804,14.544 9.904,14.544 9.904,20.649 4.804,20.649 4.804,14.544
  lines w0.2: -12.177,-24.248 -8.477,-24.248 ; -12.177,-22.448 -8.477,-22.448
  text ".Designator" at -6.627,-10.904 h0.56
  text ".Designator" at 1.097,-2.351 h0.56
  text ".Designator" at 7.862,6.116 h1.02
  text ".Designator" at -7.375,19.504 h0.76
  text ".Designator" at -0.263,19.504 h0.76
  text ".Designator" at 6.849,19.504 h0.76
  text ".Designator" at 9.085,29.463 h0.56
  text ".Designator" at 3.07,29.463 h0.56
  text ".Designator" at -4.042,29.463 h0.56
  text ".Designator" at -2.781,-15.507 h1.02
  text ".Designator" at -9.027,-21.168 h0.56
  text ".Designator" at -8.868,-8.468 h0.56
  text ".Designator" at -2.042,1.692 h0.56
  text ".Designator" at 4.748,-5.208 h0.56
  text ".Designator" at -2.457,-22.459 h0.76
  text ".Designator" at 1.097,-3.071 h0.56
  text ".Designator" at -5.357,-7.693 h0.56
  text ".Designator" at 5.066,-12.828 h0.56
  text ".Designator" at -7.336,-16.901 h0.56
  text ".Designator" at -7.439,-13.389 h0.56
  text ".Designator" at 4.78,-14.606 h0.56
  text ".Designator" at -1.121,-8.341 h0.56
  text ".Designator" at 5.074,-11.291 h0.64
  text ".Designator" at -9.291,-17.068 h0.64
  text ".Designator" at -4.398,-21.779 h0.56
  text ".Designator" at -4.398,-23.048 h0.56
  text ".Designator" at -7.439,-12.119 h0.56
  text ".Designator" at -4.398,-20.508 h0.56
  text ".Designator" at -2.933,-6.425 h0.56
  text ".Designator" at -7.177,-6.264 h0.56
  text ".Designator" at 11.556,-5.189 h0.56
  text ".Designator" at 6.657,-7.6 h0.38
Mechanical 6:
  circle w0.127: c-5.095,20.094 r0.32
  circle w0.127: c2.017,20.094 r0.32
  circle w0.127: c9.129,20.094 r0.32
  circle w0.1: c3.554,-3.165 r0.25
  lines w0.1: -9.848,-4.347 -7.448,-4.347 -7.448,-3.297 -9.848,-3.297 -9.848,-4.347 ; -8.081,-0.317 -8.081,2.083 -7.031,2.083 -7.031,-0.317 -8.081,-0.317 ; -7.91,11.654 -7.91,18.104 -4.56,18.104 -4.56,11.654 -7.91,11.654 ; -6.753,1.051 -4.353,1.051 -4.353,2.101 -6.753,2.101 -6.753,1.051 ; -6.648,-23.848 -4.248,-23.848 -4.248,-22.798 -6.648,-22.798 -6.648,-23.848 ; -6.648,-22.579 -4.248,-22.579 -4.248,-21.529 -6.648,-21.529 -6.648,-22.579 ; -6.648,-21.308 -4.248,-21.308 -4.248,-20.258 -6.648,-20.258 -6.648,-21.308 ; -6.379,-4.99 -6.379,-2.59 -5.329,-2.59 -5.329,-4.99 -6.379,-4.99 ; -5.175,2.289 -2.775,2.289 -2.775,3.339 -5.175,3.339 -5.175,2.289 ; -5.149,-9.141 -2.749,-9.141 -2.749,-8.091 -5.149,-8.091 -5.149,-9.141 ; -4.982,-6.514 -3.932,-6.514 -3.932,-4.114 -4.982,-4.114 -4.982,-6.514 ; -3.934,-14.071 -3.934,-11.671 -2.884,-11.671 -2.884,-14.071 -3.934,-14.071 ; -2.823,-21.056 -2.823,-18.656 -1.773,-18.656 -1.773,-21.056 -2.823,-21.056 ; -2.664,-14.071 -2.664,-11.671 -1.614,-11.671 -1.614,-14.071 -2.664,-14.071 ; -2.496,-4.115 4.504,-4.115 4.504,2.885 -2.496,2.885 -2.496,-4.115 ; -1.553,-21.056 -1.553,-18.656 -0.503,-18.656 -0.503,-21.056 -1.553,-21.056 ; -0.918,-17.563 -0.918,-15.163 0.132,-15.163 0.132,-17.563 -0.918,-17.563 ; -0.798,11.654 -0.798,18.104 2.552,18.104 2.552,11.654 -0.798,11.654 ; 0.352,-17.563 0.352,-15.163 1.402,-15.163 1.402,-17.563 0.352,-17.563 ; 0.987,-20.421 0.987,-18.021 2.037,-18.021 2.037,-20.421 0.987,-20.421 ; 2.257,-20.421 2.257,-18.021 3.307,-18.021 3.307,-20.421 2.257,-20.421 ; 4.757,2.797 4.757,3.847 7.157,3.847 7.157,2.797 4.757,2.797 ; 6.314,11.654 6.314,18.104 9.664,18.104 9.664,11.654 6.314,11.654 ; 6.916,-1.394 6.916,-0.344 9.316,-0.344 9.316,-1.394 6.916,-1.394 ; 6.916,1.146 6.916,2.196 9.316,2.196 9.316,1.146 6.916,1.146 ; 7.043,-3.934 9.443,-3.934 9.443,-2.884 7.043,-2.884 7.043,-3.934 ; 8.769,2.82 11.169,2.82 11.169,3.87 8.769,3.87 8.769,2.82 ; 8.821,-2.664 8.821,-1.614 11.221,-1.614 11.221,-2.664 8.821,-2.664 ; 8.821,-0.124 8.821,0.926 11.221,0.926 11.221,-0.124 8.821,-0.124
  lines w0.127: -9.42,19.269 -4.32,19.269 -4.32,25.374 -9.42,25.374 -9.42,19.269 ; -2.308,19.269 2.792,19.269 2.792,25.374 -2.308,25.374 -2.308,19.269 ; 4.804,19.269 9.904,19.269 9.904,25.374 4.804,25.374 4.804,19.269
  text ".Designator" at -9.698,-3.547 h0.56
  text ".Designator" at 9.293,-3.684 h0.56
  text ".Designator" at -6.129,-4.84 h0.56
  text ".Designator" at -1.303,-20.906 h0.56
  text ".Designator" at -2.023,-18.806 h0.56
  text ".Designator" at -0.118,-15.313 h0.56
  text ".Designator" at 3.057,-18.171 h0.56
  text ".Designator" at 0.602,-17.413 h0.56
  text ".Designator" at 1.237,-20.271 h0.56
  text ".Designator" at -5.735,13.029 h1.02
  text ".Designator" at -0.131,13.791 h1.02
  text ".Designator" at 8.489,13.029 h1.02
  text ".Designator" at -7.375,20.414 h0.76
  text ".Designator" at -0.263,20.414 h0.76
  text ".Designator" at 6.849,20.414 h0.76
  text ".Designator" at -2.414,-13.921 h0.56
  text ".Designator" at 11.019,3.07 h0.56
  text ".Designator" at 9.166,1.396 h0.56
  text ".Designator" at 4.433,0.147 h0.56
  text ".Designator" at 6.911,-1.802 h0.56
  text ".Designator" at 0.671,-2.289 h0.76
  text ".Designator" at -4.398,-21.058 h0.56
  text ".Designator" at -4.398,-22.329 h0.56
  text ".Designator" at -4.398,-23.598 h0.56
  text ".Designator" at -3.134,-11.821 h0.56
  text ".Designator" at -4.182,-4.264 h0.56
  text ".Designator" at -2.899,-8.891 h0.56
  text ".Designator" at -5.025,3.089 h0.56
  text ".Designator" at -6.603,1.851 h0.56
  text ".Designator" at -7.831,-0.167 h0.56
  text ".Designator" at 7.007,3.047 h0.56
Mechanical 13:
  drawing of 153 lines, arcs and shapes, not listed
Mechanical 14:
  drawing of 168 lines, arcs and shapes, not listed
Mechanical 15:
  drawing of 156 lines, arcs and shapes, not listed
Mechanical 16:
  drawing of 168 lines, arcs and shapes, not listed
3D body: height 0.85, standoff 0, extent -9.523,-4.296 -9.199,-3.347
3D body: height 0.85, standoff 0, extent -9.198,-4.296 -8.099,-3.347
3D body: height 0.85, standoff 0, extent -8.098,-4.296 -7.774,-3.347
3D body: height 0.85, standoff 0, extent 8.666,-1.344 8.99,-0.395
3D body: height 0.85, standoff 0, extent 7.566,-1.344 8.665,-0.395
3D body: height 0.85, standoff 0, extent 7.241,-1.344 7.565,-0.395
3D body: height 0.85, standoff 0, extent 8.793,-3.884 9.117,-2.935
3D body: height 0.85, standoff 0, extent 7.693,-3.884 8.792,-2.935
3D body: height 0.85, standoff 0, extent 7.368,-3.884 7.692,-2.935
3D body: height 0.85, standoff 0, extent -6.329,-4.665 -5.38,-4.341
3D body: height 0.85, standoff 0, extent -6.329,-4.34 -5.38,-3.241
3D body: height 0.85, standoff 0, extent -6.329,-3.24 -5.38,-2.916
3D body: height 0.85, standoff 0, extent -1.503,-20.73 -0.554,-20.406
3D body: height 0.85, standoff 0, extent -1.503,-20.405 -0.554,-19.306
3D body: height 0.85, standoff 0, extent -1.503,-19.305 -0.554,-18.981
3D body: height 0.85, standoff 0, extent -2.773,-19.305 -1.824,-18.981
3D body: height 0.85, standoff 0, extent -2.773,-20.405 -1.824,-19.306
3D body: height 0.85, standoff 0, extent -2.773,-20.73 -1.824,-20.406
3D body: height 0.85, standoff 0, extent -0.868,-15.813 0.081,-15.489
3D body: height 0.85, standoff 0, extent -0.868,-16.913 0.081,-15.814
3D body: height 0.85, standoff 0, extent -0.868,-17.238 0.081,-16.914
3D body: height 0.85, standoff 0, extent 2.307,-18.67 3.256,-18.346
3D body: height 0.85, standoff 0, extent 2.307,-19.77 3.256,-18.671
3D body: height 0.85, standoff 0, extent 2.307,-20.095 3.256,-19.771
3D body: height 0.85, standoff 0, extent 0.402,-17.238 1.351,-16.914
3D body: height 0.85, standoff 0, extent 0.402,-16.913 1.351,-15.814
3D body: height 0.85, standoff 0, extent 0.402,-15.813 1.351,-15.489
3D body: height 0.85, standoff 0, extent 1.037,-20.095 1.986,-19.771
3D body: height 0.85, standoff 0, extent 1.037,-19.77 1.986,-18.671
3D body: height 0.85, standoff 0, extent 1.037,-18.67 1.986,-18.346
3D body: height 0.71, standoff 0, extent -7.91,17.342 -4.561,18.103
3D body: height 0.71, standoff 0, extent -7.91,12.416 -4.561,17.341
3D body: height 0.71, standoff 0, extent -7.91,11.654 -4.561,12.415
3D body: height 0.71, standoff 0, extent -0.798,17.342 2.551,18.103
3D body: height 0.71, standoff 0, extent -0.798,12.416 2.551,17.341
3D body: height 0.71, standoff 0, extent -0.798,11.654 2.551,12.415
3D body: height 0.71, standoff 0, extent 6.314,17.342 9.663,18.103
3D body: height 0.71, standoff 0, extent 6.314,12.416 9.663,17.341
3D body: height 0.71, standoff 0, extent 6.314,11.654 9.663,12.415
3D body: height 1.06, standoff 1, extent -5.421,19.768 -4.769,20.42
3D body: height 1.05, standoff 0, extent -9.42,19.269 -4.321,25.373
3D body: height 1.06, standoff 1, extent 1.691,19.768 2.343,20.42
3D body: height 1.05, standoff 0, extent -2.308,19.269 2.791,25.373
3D body: height 1.06, standoff 1, extent 8.803,19.768 9.455,20.42
3D body: height 1.05, standoff 0, extent 4.804,19.269 9.903,25.373
3D body: height 0.85, standoff 0, extent -2.614,-13.745 -1.665,-13.421
3D body: height 0.85, standoff 0, extent -2.614,-13.42 -1.665,-12.321
3D body: height 0.85, standoff 0, extent -2.614,-12.32 -1.665,-11.996
3D body: height 0.85, standoff 0, extent 10.519,2.87 10.843,3.819
3D body: height 0.85, standoff 0, extent 9.419,2.87 10.518,3.819
3D body: height 0.85, standoff 0, extent 9.094,2.87 9.418,3.819
3D body: height 0.85, standoff 0, extent 7.241,1.196 7.565,2.145
3D body: height 0.85, standoff 0, extent 7.566,1.196 8.665,2.145
3D body: height 0.85, standoff 0, extent 8.666,1.196 8.99,2.145
3D body: height 1, standoff 0, extent 10.571,-0.074 10.895,0.875
3D body: height 1, standoff 0, extent 9.471,-0.074 10.57,0.875
3D body: height 1, standoff 0, extent 9.146,-0.074 9.47,0.875
3D body: height 0.85, standoff 0, extent 10.571,-2.614 10.895,-1.665
3D body: height 0.85, standoff 0, extent 9.471,-2.614 10.57,-1.665
3D body: height 0.85, standoff 0, extent 9.146,-2.614 9.47,-1.665
3D body: height 1.2, standoff 0.5, extent 3.299,-3.42 3.808,-2.911
3D body: height 1.2, standoff 0.25, extent -2.496,-4.115 4.504,2.885
3D body: height 0.85, standoff 0, extent -4.897,-21.257 -4.573,-20.308
3D body: height 0.85, standoff 0, extent -5.997,-21.257 -4.898,-20.308
3D body: height 0.85, standoff 0, extent -6.322,-21.257 -5.998,-20.308
3D body: height 0.85, standoff 0, extent -4.897,-22.529 -4.573,-21.58
3D body: height 0.85, standoff 0, extent -5.997,-22.529 -4.898,-21.58
3D body: height 0.85, standoff 0, extent -6.322,-22.529 -5.998,-21.58
3D body: height 0.85, standoff 0, extent -4.897,-23.797 -4.573,-22.848
3D body: height 0.85, standoff 0, extent -5.997,-23.797 -4.898,-22.848
3D body: height 0.85, standoff 0, extent -6.322,-23.797 -5.998,-22.848
3D body: height 0.85, standoff 0, extent -3.884,-12.32 -2.935,-11.996
3D body: height 0.85, standoff 0, extent -3.884,-13.42 -2.935,-12.321
3D body: height 0.85, standoff 0, extent -3.884,-13.745 -2.935,-13.421
3D body: height 0.85, standoff 0, extent -4.932,-6.189 -3.983,-5.865
3D body: height 0.85, standoff 0, extent -4.932,-5.864 -3.983,-4.765
3D body: height 0.85, standoff 0, extent -4.932,-4.764 -3.983,-4.44
3D body: height 0.85, standoff 0, extent -3.399,-9.091 -3.075,-8.142
3D body: height 0.85, standoff 0, extent -4.499,-9.091 -3.4,-8.142
3D body: height 0.85, standoff 0, extent -4.824,-9.091 -4.5,-8.142
3D body: height 0.85, standoff 0, extent -4.849,2.339 -4.525,3.288
3D body: height 0.85, standoff 0, extent -4.524,2.339 -3.425,3.288
3D body: height 0.85, standoff 0, extent -3.424,2.339 -3.1,3.288
3D body: height 0.85, standoff 0, extent -6.427,1.101 -6.103,2.05
3D body: height 0.85, standoff 0, extent -6.102,1.101 -5.003,2.05
3D body: height 0.85, standoff 0, extent -5.002,1.101 -4.678,2.05
3D body: height 0.85, standoff 0, extent -8.03,0.009 -7.081,0.333
3D body: height 0.85, standoff 0, extent -8.03,0.334 -7.081,1.433
3D body: height 0.85, standoff 0, extent -8.03,1.434 -7.081,1.758
3D body: height 0.85, standoff 0, extent 5.082,2.847 5.406,3.796
3D body: height 0.85, standoff 0, extent 5.407,2.847 6.506,3.796
3D body: height 0.85, standoff 0, extent 6.507,2.847 6.831,3.796
3D body: height 0.85, standoff 0, extent -7.376,-10.729 -6.427,-10.405
3D body: height 0.85, standoff 0, extent -7.376,-10.404 -6.427,-9.305
3D body: height 0.85, standoff 0, extent -7.376,-9.304 -6.427,-8.98
3D body: height 0.85, standoff 0, extent 1.272,-2.55 1.596,-1.601
3D body: height 0.85, standoff 0, extent 1.597,-2.55 2.696,-1.601
3D body: height 0.85, standoff 0, extent 2.697,-2.55 3.021,-1.601
3D body: height 10.5, standoff 10.4, extent 3.005,10.145 11.703,12.662
3D body: height 10.5, standoff 1, extent 2.093,2.379 12.615,12.901
3D body: height 1, standoff 0, extent 2.103,2.389 12.604,12.89
3D body: height 1.06, standoff 1, extent -5.421,19.498 -4.769,20.15
3D body: height 1.05, standoff 0, extent -9.42,14.544 -4.321,20.648
3D body: height 1.06, standoff 1, extent 1.691,19.498 2.343,20.15
3D body: height 1.05, standoff 0, extent -2.308,14.544 2.791,20.648
3D body: height 1.06, standoff 1, extent 8.803,19.498 9.455,20.15
3D body: height 1.05, standoff 0, extent 4.804,14.544 9.903,20.648
3D body: height 0.85, standoff 0, extent 8.585,29.263 8.909,30.212
3D body: height 0.85, standoff 0, extent 7.485,29.263 8.584,30.212
3D body: height 0.85, standoff 0, extent 7.16,29.263 7.484,30.212
3D body: height 0.85, standoff 0, extent 2.57,29.263 2.894,30.212
3D body: height 0.85, standoff 0, extent 1.47,29.263 2.569,30.212
3D body: height 0.85, standoff 0, extent 1.145,29.263 1.469,30.212
3D body: height 0.85, standoff 0, extent -4.542,29.263 -4.218,30.212
3D body: height 0.85, standoff 0, extent -5.642,29.263 -4.543,30.212
3D body: height 0.85, standoff 0, extent -5.967,29.263 -5.643,30.212
3D body: height 1.61, standoff 1, extent -3.832,-12.704 -3.221,-12.093
3D body: height 1.6, standoff 0, extent -4.427,-18.499 2.573,-11.499
3D body: height 0.85, standoff 0, extent -9.526,-21.918 -9.202,-20.969
3D body: height 0.85, standoff 0, extent -10.626,-21.918 -9.527,-20.969
3D body: height 0.85, standoff 0, extent -10.951,-21.918 -10.627,-20.969
3D body: height 0.85, standoff 0, extent -9.368,-9.218 -9.044,-8.269
3D body: height 0.85, standoff 0, extent -10.468,-9.218 -9.369,-8.269
3D body: height 0.85, standoff 0, extent -10.793,-9.218 -10.469,-8.269
3D body: height 0.85, standoff 0, extent -2.541,0.942 -2.217,1.891
3D body: height 0.85, standoff 0, extent -3.641,0.942 -2.542,1.891
3D body: height 0.85, standoff 0, extent -3.966,0.942 -3.642,1.891
3D body: height 0.85, standoff 0, extent 4.924,-5.408 5.248,-4.459
3D body: height 0.85, standoff 0, extent 5.249,-5.408 6.348,-4.459
3D body: height 0.85, standoff 0, extent 6.349,-5.408 6.673,-4.459
3D body: height 0.8, standoff 0.3, extent -10.776,-23.973 -9.377,-22.724
3D body: height 0.3, standoff 0, extent -11.127,-24.023 -9.027,-22.673
3D body: height 0.85, standoff 0, extent 2.697,-3.82 3.021,-2.871
3D body: height 0.85, standoff 0, extent 1.597,-3.82 2.696,-2.871
3D body: height 0.85, standoff 0, extent 1.272,-3.82 1.596,-2.871
3D body: height 0.85, standoff 0, extent -6.106,-9.618 -5.157,-9.294
3D body: height 0.85, standoff 0, extent -6.106,-9.293 -5.157,-8.194
3D body: height 0.85, standoff 0, extent -6.106,-8.193 -5.157,-7.869
3D body: height 0.85, standoff 0, extent 6.666,-13.028 6.99,-12.079
3D body: height 0.85, standoff 0, extent 5.566,-13.028 6.665,-12.079
3D body: height 0.85, standoff 0, extent 5.241,-13.028 5.565,-12.079
3D body: height 0.85, standoff 0, extent -7.535,-18.825 -6.586,-18.501
3D body: height 0.85, standoff 0, extent -7.535,-18.5 -6.586,-17.401
3D body: height 0.85, standoff 0, extent -7.535,-17.4 -6.586,-17.076
3D body: height 0.85, standoff 0, extent -7.939,-14.139 -7.615,-13.19
3D body: height 0.85, standoff 0, extent -9.039,-14.139 -7.94,-13.19
3D body: height 0.85, standoff 0, extent -9.364,-14.139 -9.04,-13.19
3D body: height 0.85, standoff 0, extent 6.38,-14.806 6.704,-13.857
3D body: height 0.85, standoff 0, extent 5.28,-14.806 6.379,-13.857
3D body: height 0.85, standoff 0, extent 4.955,-14.806 5.279,-13.857
3D body: height 0.85, standoff 0, extent -3.046,-9.091 -2.722,-8.142
3D body: height 0.85, standoff 0, extent -2.721,-9.091 -1.622,-8.142
3D body: height 0.85, standoff 0, extent -1.621,-9.091 -1.297,-8.142
3D body: height 1.45, standoff 0, extent 5.175,-11.69 5.624,-10.241
3D body: height 1.45, standoff 0, extent 5.625,-11.69 6.924,-10.241
3D body: height 1.45, standoff 0, extent 6.925,-11.69 7.374,-10.241
3D body: height 1.45, standoff 0, extent -9.69,-17.618 -8.241,-17.169
3D body: height 1.45, standoff 0, extent -9.69,-18.918 -8.241,-17.619
3D body: height 1.45, standoff 0, extent -9.69,-19.368 -8.241,-18.919
3D body: height 0.85, standoff 0, extent -4.897,-22.529 -4.573,-21.58
3D body: height 0.85, standoff 0, extent -5.997,-22.529 -4.898,-21.58
3D body: height 0.85, standoff 0, extent -6.322,-22.529 -5.998,-21.58
3D body: height 0.85, standoff 0, extent -4.897,-23.797 -4.573,-22.848
3D body: height 0.85, standoff 0, extent -5.997,-23.797 -4.898,-22.848
3D body: height 0.85, standoff 0, extent -6.322,-23.797 -5.998,-22.848
3D body: height 0.85, standoff 0, extent -9.364,-12.869 -9.04,-11.92
3D body: height 0.85, standoff 0, extent -9.039,-12.869 -7.94,-11.92
3D body: height 0.85, standoff 0, extent -7.939,-12.869 -7.615,-11.92
3D body: height 0.85, standoff 0, extent -4.897,-21.257 -4.573,-20.308
3D body: height 0.85, standoff 0, extent -5.997,-21.257 -4.898,-20.308
3D body: height 0.85, standoff 0, extent -6.322,-21.257 -5.998,-20.308
3D body: height 0.85, standoff 0, extent -5.713,-7.154 -5.389,-6.205
3D body: height 0.85, standoff 0, extent -5.388,-7.154 -4.289,-6.205
3D body: height 0.85, standoff 0, extent -4.288,-7.154 -3.964,-6.205
3D body: height 0.85, standoff 0, extent -7.376,-8.189 -6.427,-7.865
3D body: height 0.85, standoff 0, extent -7.376,-7.864 -6.427,-6.765
3D body: height 0.85, standoff 0, extent -7.376,-6.764 -6.427,-6.44
3D body: height 0.85, standoff 0, extent 11.356,-3.589 12.305,-3.265
3D body: height 0.85, standoff 0, extent 11.356,-4.689 12.305,-3.59
3D body: height 0.85, standoff 0, extent 11.356,-5.014 12.305,-4.69
3D body: height 0.56, standoff 0.3, extent 9.552,-7.877 9.959,-7.47
3D body: height 0.55, standoff 0, extent 9.356,-8.023 11.956,-6.923

## TRACK4 [mm]
pads (4):
  rect 1.524x1.524 smd far side: 4(7.5,-15) 5(2.5,-15) 6(-2.5,-15) 7(-7.5,-15)
via 0,16.6 diameter 0.8 hole 0.5
via 0,11.2 diameter 0.8 hole 0.5
via -22.375,-0.05 diameter 0.8 hole 0.5
via -16.825,0 diameter 0.8 hole 0.5
Top Layer:
  circle w1: c0,0 r20.88
  circle w1: c0,0 r18.54
  circle w1: c0,0 r15.34
  circle w1: c0,0 r13
  lines w0.245: -0.125,15.55 0,15.425
  lines w1: -22.65,0 -20.975,0 ; -18.5,0 -16.825,0 ; 0,11.2 0,12.75 ; 0,15.425 0,16.6
Bottom Layer:
  lines w0.245: -22.375,-0.05 -22.375,-0.125 -7.5,-15 ; -16.825,0 -14.075,0 -2.5,-11.575 ; -2.55,-15.225 -2.55,-11.625 ; 0,11.2 0,9.8 7.5,2.3 7.5,-15 ; 0,16.6 -1.475,16.6 -2.55,15.525 -2.55,8.55 4.35,1.65 4.35,-13.375 2.75,-14.975
Top Paste:
  circle w1: c0,0 r20.88
  circle w1: c0,0 r18.54
  circle w1: c0,0 r15.34
  circle w1: c0,0 r13
Top Solder:
  circle w1: c0,0 r20.88
  circle w1: c0,0 r18.54
  circle w1: c0,0 r15.34
  circle w1: c0,0 r13
Keep-Out Layer:
  circle w0.254: c10,0 r1
  circle w0.254: c-10,0 r1
  circle w0.254: c0,0 r2.95